# EAGLE library part RJ11 (library ds18x20-board)
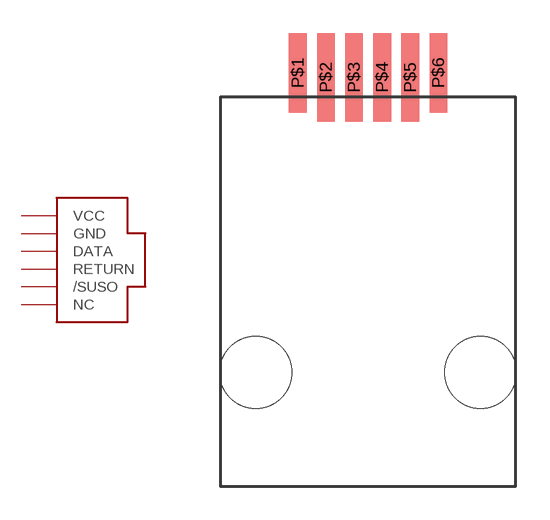
[diagram p0: symbol with the pads of RJ11; footprint RJ11]

Designator prefix -

## RJ11  [RJ11]
P$1  VCC  sup
P$2  GND  sup
P$3  DATA
P$4  RETURN
P$5  /SUSO
P$6  NC  nc

## Footprint RJ11 (pad centres in mm)
smd 0.8 x 3.6: P$1 -3.175,13.535; P$6 3.175,13.535
smd 0.8 x 4: P$2 -1.905,13.335; P$3 -0.635,13.335; P$4 0.635,13.335; P$5 1.905,13.335
hole 3.25 at -5.08,0
hole 3.24 at 5.08,0